# Altium schematic symbol library Si4112-D-GM.Schlib: 1 symbol
Pins are listed as number, name and electrical type; pins without a type are passive.

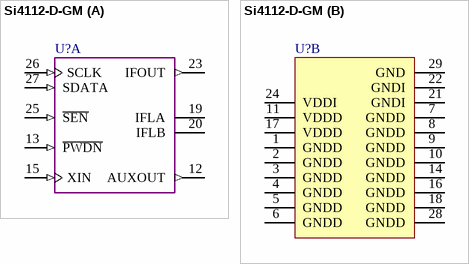
[diagram p0: symbol Si4112-D-GM]

## Si4112-D-GM
designator U?  (value not drawn)
part A pins: 12 AUXOUT (out) "Auxiliary output", 13 ~{PWDN} (in) "Powerdown input pin", 15 XIN (in) "Reference frequency amplifier input", 19 IFLA "Pins for inductor connection to IF VCO", 20 IFLB "Pins for inductor connection to IF VCO", 23 IFOUT (out) "Intermediate frequency (IF) output of the IF VCO", 25 ~{SEN} (in) "Enable serial port input", 26 SCLK (in) "Serial clock input", 27 SDATA (in) "Serial data input"
part B pins: 1 GNDD (power) "Common ground for digital circuitry", 2 GNDD (power) "Common ground for digital circuitry", 3 GNDD (power) "Common ground for digital circuitry", 4 GNDD (power) "Common ground for digital circuitry", 5 GNDD (power) "Common ground for digital circuitry", 6 GNDD (power) "Common ground for digital circuitry", 7 GNDD (power) "Common ground for digital circuitry", 8 GNDD (power) "Common ground for digital circuitry", 9 GNDD (power) "Common ground for digital circuitry", 10 GNDD (power) "Common ground for digital circuitry", 11 VDDD (power) "Supply voltage for digital circuitry", 14 GNDD (power) "Common ground for digital circuitry", 16 GNDD (power) "Common ground for digital circuitry", 17 VDDD (power) "Supply voltage for digital circuitry", 18 GNDD (power) "Common ground for digital circuitry", 21 GNDI (power) "Common ground for IF analog circuitry", 22 GNDI (power) "Common ground for IF analog circuitry", 24 VDDI (power) "Supply voltage for IF analog circuitry", 28 GNDD (power) "Common ground for digital circuitry", 29 GND (power)